# Altium footprint library epic21.PcbLib: 16 footprints
Each footprint in its own frame and in the unit in brackets; x right, y up, seen from the top. Pads: shape width x height; smd on the part's side, far side on the other; paste and mask are expansions set on the pad; w line width, h text height; cw(c..) or ccw(c..) is an arc to the next point about the centre after c.
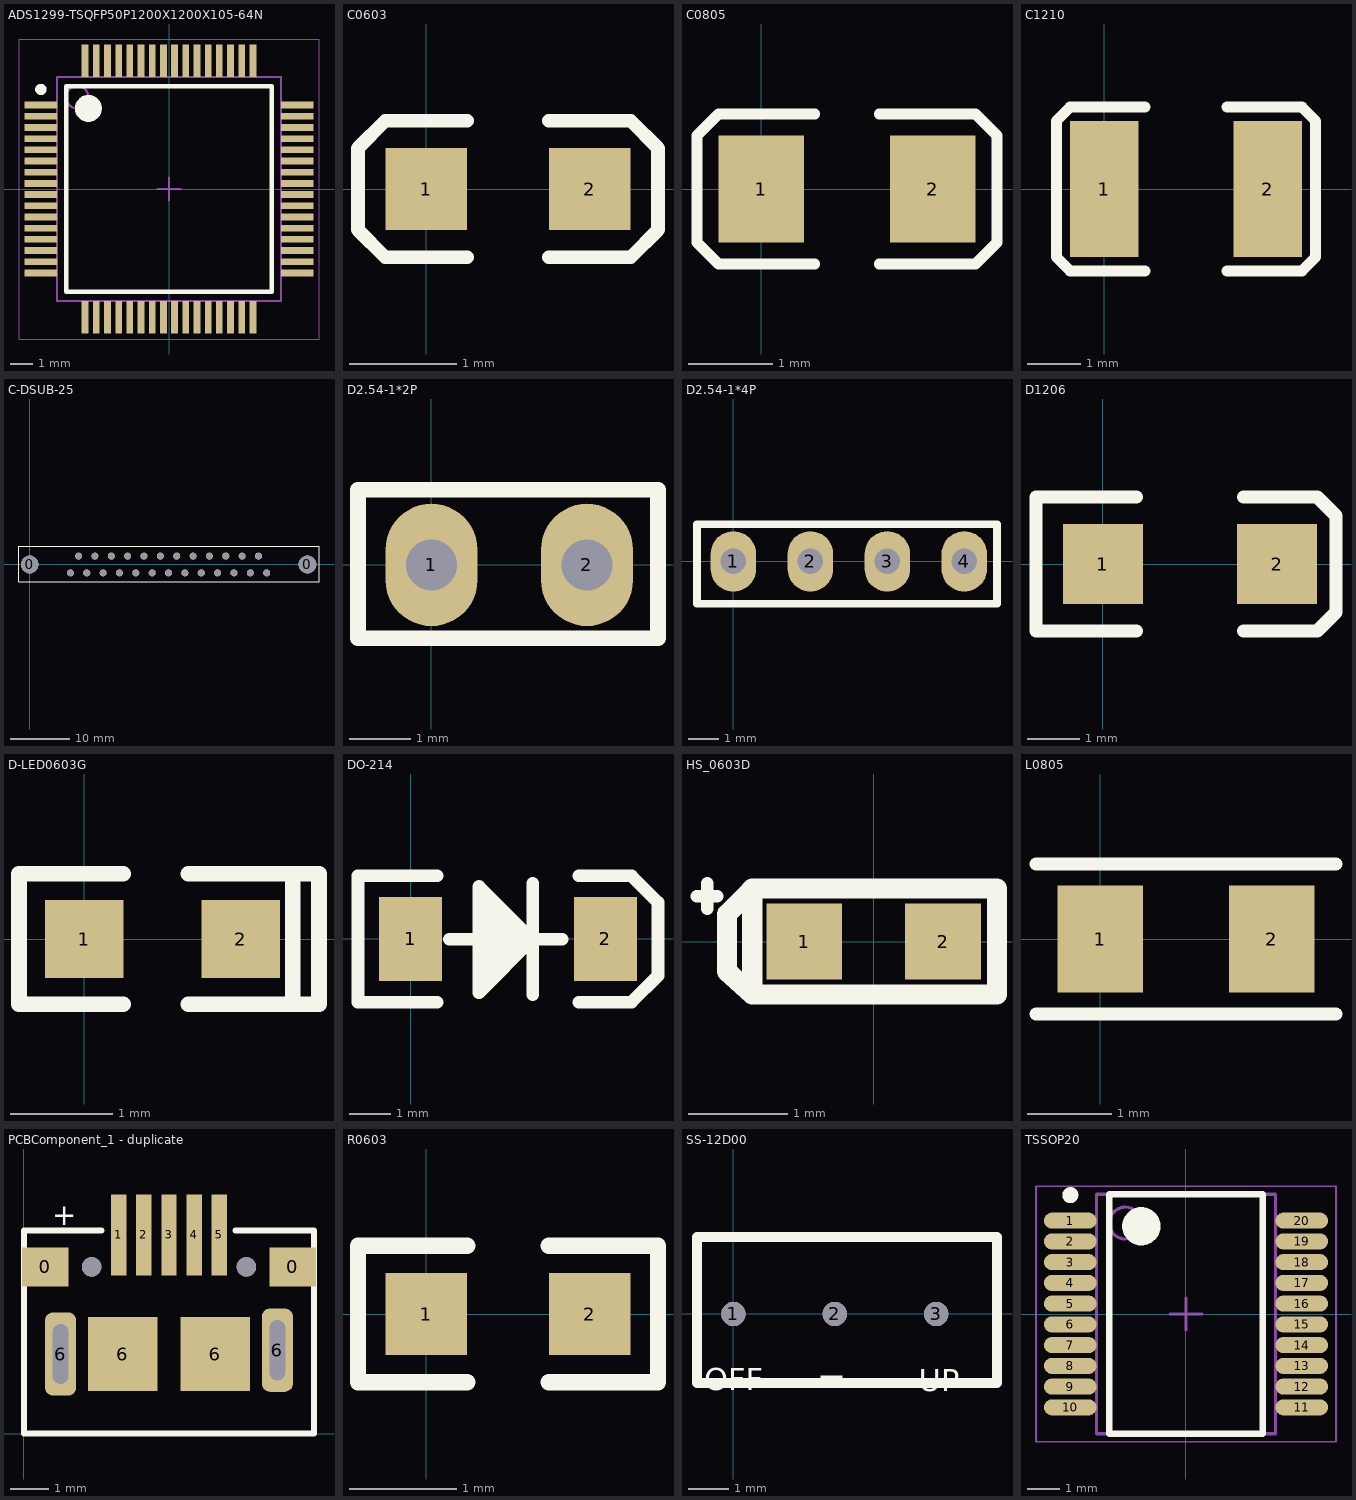
[diagram p0: the footprints below, top view; thin cyan lines are the x and y axes]

## ADS1299-TSQFP50P1200X1200X105-64N [mm] "TSQFP, 64-Leads, Body 10.00x10.00mm, Pitch 0.50mm, IPC Medium Density"
height 1.05
pads (64):
  rect 1.45x0.3 smd: 1(-5.725,3.75) 2(-5.725,3.25) 3(-5.725,2.75) 4(-5.725,2.25) 5(-5.725,1.75) 6(-5.725,1.25) 7(-5.725,0.75) 8(-5.725,0.25) 9(-5.725,-0.25) 10(-5.725,-0.75) 11(-5.725,-1.25) 12(-5.725,-1.75) 13(-5.725,-2.25) 14(-5.725,-2.75) 15(-5.725,-3.25) 16(-5.725,-3.75) 33(5.725,-3.75) 34(5.725,-3.25) 35(5.725,-2.75) 36(5.725,-2.25) 37(5.725,-1.75) 38(5.725,-1.25) 39(5.725,-0.75) 40(5.725,-0.25) 41(5.725,0.25) 42(5.725,0.75) 43(5.725,1.25) 44(5.725,1.75) 45(5.725,2.25) 46(5.725,2.75) 47(5.725,3.25) 48(5.725,3.75)
  rect 0.3x1.45 smd: 17(-3.75,-5.725) 18(-3.25,-5.725) 19(-2.75,-5.725) 20(-2.25,-5.725) 21(-1.75,-5.725) 22(-1.25,-5.725) 23(-0.75,-5.725) 24(-0.25,-5.725) 25(0.25,-5.725) 26(0.75,-5.725) 27(1.25,-5.725) 28(1.75,-5.725) 29(2.25,-5.725) 30(2.75,-5.725) 31(3.25,-5.725) 32(3.75,-5.725) 49(3.75,5.725) 50(3.25,5.725) 51(2.75,5.725) 52(2.25,5.725) 53(1.75,5.725) 54(1.25,5.725) 55(0.75,5.725) 56(0.25,5.725) 57(-0.25,5.725) 58(-0.75,5.725) 59(-1.25,5.725) 60(-1.75,5.725) 61(-2.25,5.725) 62(-2.75,5.725) 63(-3.25,5.725) 64(-3.75,5.725)
Top Overlay:
  circle w0.6: c-3.6,3.6 r0.3
  circle w0.25: c-5.725,4.45 r0.125
  lines w0.2: -4.6,-4.6 4.6,-4.6 4.6,4.6 -4.6,4.6 -4.6,-4.6
Mechanical 13:
  circle w0.1: c-4.1,4.1 r0.5
  lines w0.1: -5,-5 5,-5 5,5 -5,5 -5,-5
Mechanical 15:
  lines w0.05: -6.7,-6.7 6.7,-6.7 6.7,6.7 -6.7,6.7 -6.7,-6.7
  lines w0.1: -0.5,0 0.5,0 ; 0,-0.5 0,0.5
3D body: height 1.05, standoff 0.25, extent -5,-5 5,5

## C0603 [mil]
height 12
pads (2):
  rect 30x30 smd: 1(0,0) 2(60,0)
Top Overlay:
  lines w5: 15,-25 -15,-25 -25,-15 -25,15 -15,25 15,25 ; 45,-25 75,-25 85,-15 85,15 75,25 45,25
3D body "C0603.STEP": height 11.89, standoff 0, extent -1.5,-15.5 61.5,16

## C0805 [mil]
height 15
pads (2):
  rect 40x50 smd: 1(0,0) 2(80,0)
Top Overlay:
  lines w5: 25,-35 -20,-35 -30,-25 -30,25 -20,35 25,35 ; 55,-35 100,-35 110,-25 110,25 100,35 55,35
3D body "C0805.STEP": height 37.4, standoff 0, extent 0.63,-23.24 79.37,24

## C1210 [mil]
height 20
pads (2):
  rect 50x100 smd: 1(0,0) 2(120,0)
Top Overlay:
  lines w8: 30,-60 -25,-60 -35,-50 -35,50 -25,60 30,60 ; 90,-60 145,-60 155,-50 155,50 145,60 90,60
3D body "C1210.STEP": height 98.43, standoff 0, extent -2.99,-48.42 123,50

## C-DSUB-25 [mm] "C-DSUB-25"
pads (27):
  round 3 hole 3: 0(0,0) 0(47.04,0)
  round 1.2 hole 1.1: 1(6.9,-1.42) 2(9.67,-1.42) 3(12.44,-1.42) 4(15.21,-1.42) 5(17.98,-1.42) 6(20.75,-1.42) 7(23.52,-1.42) 8(26.29,-1.42) 9(29.06,-1.42) 10(31.83,-1.42) 11(34.6,-1.42) 12(37.37,-1.42) 13(40.14,-1.42) 14(8.285,1.42) 15(11.055,1.42) 16(13.825,1.42) 17(16.595,1.42) 18(19.365,1.42) 19(22.135,1.42) 20(24.905,1.42) 21(27.675,1.42) 22(30.445,1.42) 23(33.215,1.42) 24(35.985,1.42) 25(38.755,1.42)
Top Overlay:
  lines w0.2: -1.8,-2.92 49,-2.92 49,3.08 -1.8,3.08 -1.8,-2.92

## D2.54-1*2P [mm]
pads (2):
  oval 1.5x2 hole 0.838: 1(0,0) 2(2.54,0)
Top Overlay:
  lines w0.254: -1.2,-1.2 -1.2,1.23 3.7,1.23 3.7,0.573 3.7,-0.743 3.7,-1.2 -1.2,-1.2
3D body: height 2.54, standoff 0, extent -1.1,-1.3 3.6,1.24
3D body: height 10, standoff -4, extent 2.142,-0.399 2.939,0.399
3D body: height 10, standoff -4, extent -0.398,-0.399 0.399,0.399

## D2.54-1*4P [mm] "Bluetooth"
pads (4):
  oval 1.5x2 hole 0.838: 1(0,0) 2(2.54,0) 3(5.08,0) 4(7.62,0)
Top Overlay:
  lines w0.254: -1.2,-1.4 -1.2,1.23 8.7,1.23 8.7,-1.4 -1.2,-1.4
3D body: height 2.54, standoff 0, extent -1.1,-1.4 8.7,1.23
3D body: height 10, standoff -4, extent 7.222,-0.399 8.019,0.399
3D body: height 10, standoff -4, extent 4.682,-0.399 5.479,0.399
3D body: height 10, standoff -4, extent 2.142,-0.399 2.939,0.399
3D body: height 10, standoff -4, extent -0.398,-0.399 0.399,0.399

## D1206 [mil]
height 12
pads (2):
  rect 60x60 smd: 1(0,0) 2(130,0)
Top Overlay:
  lines w10: 25,-50 -50,-50 -50,50 25,50 ; 105,-50 145,-50 160,-50 174.02,-35.98 174.02,35.98 160,50 105,50
3D body: height 3.94, standoff 0, extent 117.5,-23 150.5,23
3D body: height 3.94, standoff 0, extent -22,-23 11,23
3D body: height 47.24, standoff 3.94, extent -7,-40 105,40
3D body: height 47.24, standoff 3.94, extent 105,-40 123,40
3D body: height 47.24, standoff 3.94, extent 123,-40 134,40

## D-LED0603G [mil]
height 39.37
pads (2):
  rect 30x30 smd: 1(0,0) 2(60,0)
Top Overlay:
  lines w6: 15,-25 -25,-25 -25,25 15,25 ; 40,-25 90,-25 90,25 40,25 ; 80,-25 80,25
3D body "LED_0603_GREEN.STEP": height 23.62, standoff 0, extent -1.89,-16.5 61.89,15

## DO-214 [mil]
height 267.72
pads (2):
  rect 60x80 smd: 1(0,0) 2(185,0)
Top Overlay:
  region: 64.92,-25.05 91,-25.05 91,22.87 64.92,22.87
  lines w12: 25,-60 -50,-60 -50,60 25,60 ; 36.92,-0.13 143.92,-0.13 ; 64.92,33.87 100.29,-1.51 66.66,-35.13 ; 115.92,-53.13 115.92,52.87 ; 160,-60 209.92,-60 235,-34.92 235,34.87 209.87,60 160,60 ; 64.92,-51.13 64.92,49.87 115.92,-1.13 115.92,-0.13 64.92,-51.13

## HS_0603D [mil]
height 100
pads (2):
  rect 30x30 smd: 1(-27.5,0) 2(27.5,0)
Top Overlay:
  lines w5: -70,18 -62,18 ; -66,13 -66,23
  lines w8: -49,20 -58.12,10.88 -58.12,-11.87 -48.12,-21 ; -48.12,20 -48.12,-21 ; -48.12,21 48.88,21 48.88,-21 -48.12,-21

## L0805 [mil]
height 12
pads (2):
  rect 40x50 smd: 1(0,0) 2(80,0)
Top Overlay:
  lines w6: -30,-35 60,-35 110,-35 ; -30,35 60,35 110,35
3D body "R0805.STEP": height 21.65, standoff 0, extent 0.63,-25 79.37,24.61

## PCBComponent_1 - duplicate [mm]
pads (13):
  rect 1.2x1 smd: 0(0.55,4.307) 0(6.95,4.307)
  rect 0.4x2.1 smd: 1(2.45,5.132) 2(3.1,5.132) 3(3.75,5.132) 4(4.4,5.132) 5(5.05,5.132)
  rrect50% 0.8x2.15 hole 0.4 slot 1.55 at 90 deg: 6(0.95,2.057) 6(6.55,2.157)
  rect 1.8x1.9 smd: 6(2.556,2.057) 6(4.943,2.057)
  round 0.5 hole 0.5 unplated: ""(1.75,4.307) ""(5.75,4.307)
Top Overlay:
  lines w0.152: 2.007,5.25 0,5.25 0,0 7.5,0 7.5,5.25 5.469,5.25
  text "+" at 0.737,5.385 h0.55

## R0603 [mil]
height 12
pads (2):
  rect 30x30 smd: 1(0,0) 2(60,0)
Top Overlay:
  lines w6: 15,-25 -25,-25 -25,25 15,25 ; 45,-25 85,-25 85,25 45,25
3D body "R0603.STEP": height 17.72, standoff 0, extent -0.5,-16 62.5,15.5

## SS-12D00 [mm] "SS-12D00(1P2T) 立式 柄高5MM"
pads (3):
  round 0.6 hole 0.6: 1(0,0) 2(2.5,0) 3(5,0)
Top Overlay:
  lines w0.254: -0.9,-1.7 6.5,-1.7 6.5,1.9 -0.9,1.9 -0.9,-1.7
  text "OFF" at -0.725,-1.875 h0.55
  text "I" at 2.7,-1.675 h0.55
  text "UP" at 4.575,-1.9 h0.55

## TSSOP20 [mm] "SOP, 20-Leads, Body 7.20x5.30mm, Pitch 0.65mm, IPC Medium Density"
height 2
pads (20):
  oval 1.65x0.5 smd: 1(-3.625,2.925) 2(-3.625,2.275) 3(-3.625,1.625) 4(-3.625,0.975) 5(-3.625,0.325) 6(-3.625,-0.325) 7(-3.625,-0.975) 8(-3.625,-1.625) 9(-3.625,-2.275) 10(-3.625,-2.925) 11(3.625,-2.925) 12(3.625,-2.275) 13(3.625,-1.625) 14(3.625,-0.975) 15(3.625,-0.325) 16(3.625,0.325) 17(3.625,0.975) 18(3.625,1.625) 19(3.625,2.275) 20(3.625,2.925)
Top Overlay:
  circle w0.6: c-1.4,2.75 r0.3
  circle w0.25: c-3.625,3.725 r0.125
  lines w0.2: -2.4,-3.75 2.4,-3.75 2.4,3.75 -2.4,3.75 -2.4,-3.75
Mechanical 13:
  circle w0.1: c-1.9,2.85 r0.5
  lines w0.1: -2.8,-3.75 2.8,-3.75 2.8,3.75 -2.8,3.75 -2.8,-3.75
Mechanical 15:
  lines w0.05: -4.7,-4 4.7,-4 4.7,4 -4.7,4 -4.7,-4
  lines w0.1: -0.5,0 0.5,0 ; 0,-0.5 0,0.5
3D body: height 2, standoff 0.05, extent -2.8,-3.75 2.8,3.75